# Altium schematic symbol library угоГОСТ.SchLib: 3 symbols
Pins are listed as number, name and electrical type; pins without a type are passive.

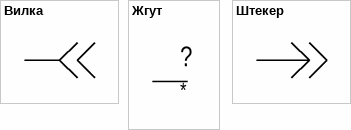
[diagram p0: symbols Вилка to Штекер]

## Вилка
designator *  (value not drawn)  (graphical)
pins: 11

## Жгут
designator ?
Категория ПЭ: *
pins: 12

## Штекер
designator *  (value not drawn)  (net tie, no BOM)
pins: 11